# Altium footprint library CONNECTOR_PINHEADER_PINSOCKET.PcbLib: 7 footprints
Each footprint in its own frame and in the unit in brackets; x right, y up, seen from the top. Pads: shape width x height; smd on the part's side, far side on the other; paste and mask are expansions set on the pad; w line width, h text height; cw(c..) or ccw(c..) is an arc to the next point about the centre after c.
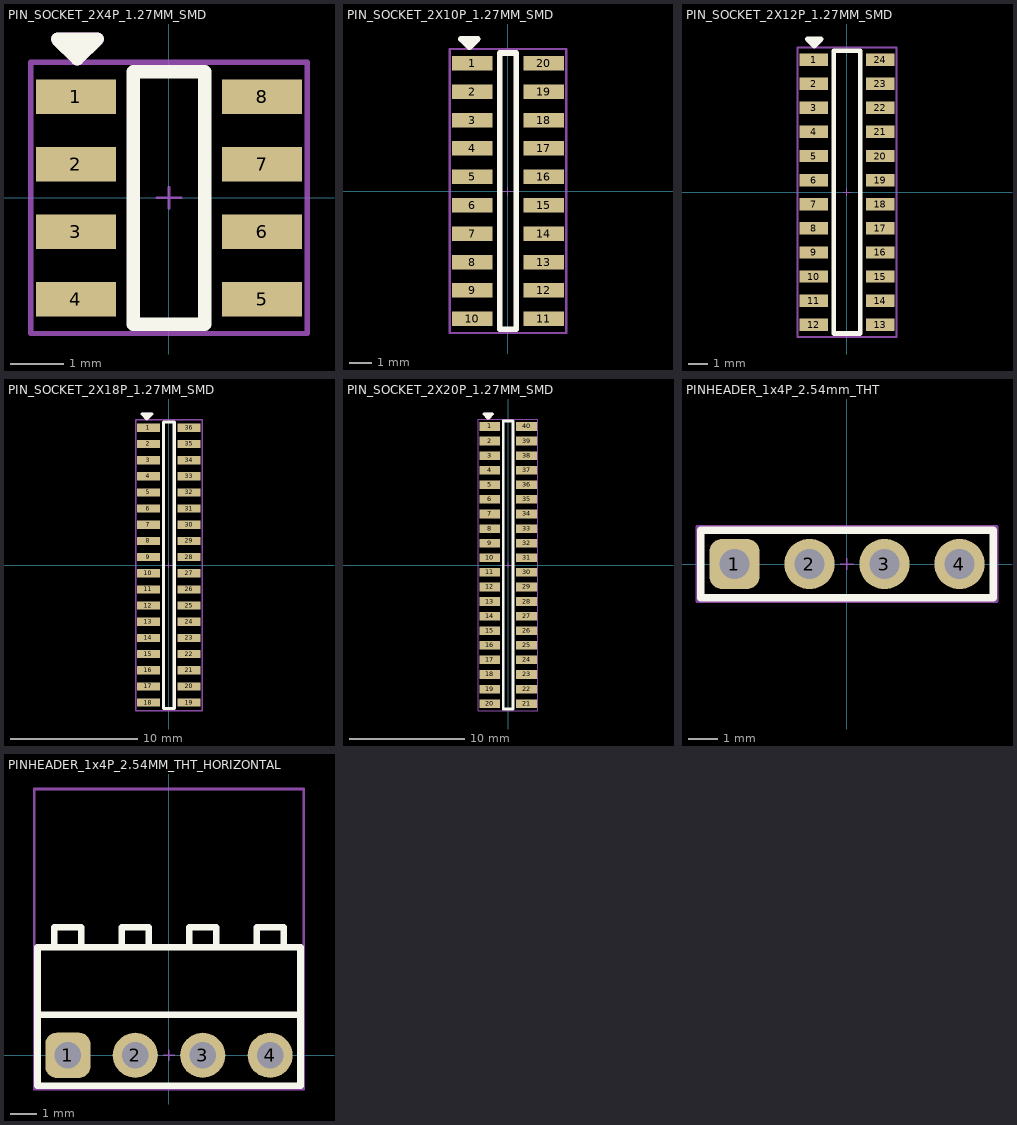
[diagram p0: the footprints below, top view; thin cyan lines are the x and y axes]

## PIN_SOCKET_2X4P_1.27MM_SMD [mm]
pads (8):
  rect 1.5x0.65 smd: 1(-1.75,1.905) 2(-1.75,0.635) 3(-1.75,-0.635) 4(-1.75,-1.905) 5(1.75,-1.905) 6(1.75,-0.635) 7(1.75,0.635) 8(1.75,1.905)
Top Overlay:
  region: -2.1,2.99 -1.35,2.99 -1.725,2.615
  lines w0.25: -2.1,2.99 -1.725,2.615 -1.35,2.99 -2.1,2.99 ; -0.675,-2.375 0.675,-2.375 0.675,2.375 -0.675,2.375 -0.675,-2.375
Mechanical 13:
  region: -2.1,2.99 -1.35,2.99 -1.725,2.615
  lines w0.1: -2.6,-2.55 2.6,-2.55 2.6,2.55 -2.6,2.55 -2.6,-2.55
  lines w0.25: -2.1,2.99 -1.725,2.615 -1.35,2.99 -2.1,2.99
Mechanical 15:
  lines w0.05: -0.225,0 0.225,0 ; 0,-0.2 0,0.2 ; -2.6,-2.55 2.6,-2.55 2.6,2.55 -2.6,2.55 -2.6,-2.55
3D body "PinSocket_2x04_P1.27mm_Vertical_SMD.step": height 4.6, standoff -0.03, extent -2.592,-2.54 2.592,2.54

## PIN_SOCKET_2X10P_1.27MM_SMD [mm]
pads (20):
  rect 1.8x0.65 smd: 1(-1.6,5.715) 2(-1.6,4.445) 3(-1.6,3.175) 4(-1.6,1.905) 5(-1.6,0.635) 6(-1.6,-0.635) 7(-1.6,-1.905) 8(-1.6,-3.175) 9(-1.6,-4.445) 10(-1.6,-5.715) 11(1.6,-5.715) 12(1.6,-4.445) 13(1.6,-3.175) 14(1.6,-1.905) 15(1.6,-0.635) 16(1.6,0.635) 17(1.6,1.905) 18(1.6,3.175) 19(1.6,4.445) 20(1.6,5.715)
Top Overlay:
  region: -2.1,6.8 -1.35,6.8 -1.725,6.425
  lines w0.25: -2.1,6.8 -1.35,6.8 -1.725,6.425 -2.1,6.8 ; -0.375,-6.175 0.375,-6.175 0.375,6.175 -0.375,6.175 -0.375,-6.175
Mechanical 13:
  region: -2.1,6.8 -1.35,6.8 -1.725,6.425
  lines w0.1: -2.6,-6.35 2.6,-6.35 2.6,6.35 -2.6,6.35 -2.6,-6.35
  lines w0.25: -2.1,6.8 -1.35,6.8 -1.725,6.425 -2.1,6.8
Mechanical 15:
  lines w0.05: -0.225,0 0.225,0 ; 0,-0.2 0,0.2 ; -2.6,-6.35 2.6,-6.35 2.6,6.35 -2.6,6.35 -2.6,-6.35
3D body "PinSocket_2x10_P1.27mm_Vertical_SMD.step": height 4.6, standoff -0.03, extent -2.593,-6.35 2.592,6.35

## PIN_SOCKET_2X12P_1.27MM_SMD [mm]
pads (24):
  rect 1.5x0.65 smd: 1(-1.75,6.985) 2(-1.75,5.715) 3(-1.75,4.445) 4(-1.75,3.175) 5(-1.75,1.905) 6(-1.75,0.635) 7(-1.75,-0.635) 8(-1.75,-1.905) 9(-1.75,-3.175) 10(-1.75,-4.445) 11(-1.75,-5.715) 12(-1.75,-6.985) 13(1.75,-6.985) 14(1.75,-5.715) 15(1.75,-4.445) 16(1.75,-3.175) 17(1.75,-1.905) 18(1.75,-0.635) 19(1.75,0.635) 20(1.75,1.905) 21(1.75,3.175) 22(1.75,4.445) 23(1.75,5.715) 24(1.75,6.985)
Top Overlay:
  region: -2.1,8.07 -1.35,8.07 -1.725,7.695
  lines w0.25: -2.1,8.07 -1.35,8.07 -1.725,7.695 -2.1,8.07 ; -0.7,-7.45 -0.7,7.45 0.7,7.45 0.7,-7.45 -0.7,-7.45
Mechanical 13:
  lines w0.1: -2.6,-7.625 2.6,-7.625 2.6,7.625 -2.6,7.625 -2.6,-7.625
Mechanical 15:
  lines w0.05: -0.225,0 0.225,0 ; 0,-0.2 0,0.2 ; -2.6,-7.625 -2.6,7.625 2.6,7.625 2.6,-7.625 -2.6,-7.625
3D body "PinSocket_2x12_P1.27mm_Vertical_SMD.step": height 4.6, standoff -0.03, extent -2.592,-7.62 2.592,7.62

## PIN_SOCKET_2X18P_1.27MM_SMD [mm]
pads (36):
  rect 1.8x0.65 smd: 1(-1.6,10.795) 2(-1.6,9.525) 3(-1.6,8.255) 4(-1.6,6.985) 5(-1.6,5.715) 6(-1.6,4.445) 7(-1.6,3.175) 8(-1.6,1.905) 9(-1.6,0.635) 10(-1.6,-0.635) 11(-1.6,-1.905) 12(-1.6,-3.175) 13(-1.6,-4.445) 14(-1.6,-5.715) 15(-1.6,-6.985) 16(-1.6,-8.255) 17(-1.6,-9.525) 18(-1.6,-10.795) 19(1.6,-10.795) 20(1.6,-9.525) 21(1.6,-8.255) 22(1.6,-6.985) 23(1.6,-5.715) 24(1.6,-4.445) 25(1.6,-3.175) 26(1.6,-1.905) 27(1.6,-0.635) 28(1.6,0.635) 29(1.6,1.905) 30(1.6,3.175) 31(1.6,4.445) 32(1.6,5.715) 33(1.6,6.985) 34(1.6,8.255) 35(1.6,9.525) 36(1.6,10.795)
Top Overlay:
  region: -2.1,11.88 -1.35,11.88 -1.725,11.505
  lines w0.25: -2.1,11.88 -1.35,11.88 -1.725,11.505 -2.1,11.88 ; -0.425,-11.275 0.425,-11.275 0.425,11.255 -0.425,11.255 -0.425,-11.275
Mechanical 13:
  region: -2.1,11.88 -1.35,11.88 -1.725,11.505
  lines w0.1: -2.6,-11.45 2.625,-11.45 2.625,11.425 -2.6,11.425 -2.6,-11.45
  lines w0.25: -2.1,11.88 -1.35,11.88 -1.725,11.505 -2.1,11.88
Mechanical 15:
  lines w0.05: -0.225,0 0.225,0 ; 0,-0.2 0,0.2 ; -2.6,-11.45 2.625,-11.45 2.625,11.425 -2.6,11.425 -2.6,-11.45
3D body "PinSocket_2x18_P1.27mm_Vertical_SMD.step": height 4.6, standoff -0.03, extent -2.592,-11.43 2.592,11.43

## PIN_SOCKET_2X20P_1.27MM_SMD [mm]
pads (40):
  rect 1.8x0.75 smd: 1(-1.6,12.065) 2(-1.6,10.795) 3(-1.6,9.525) 4(-1.6,8.255) 5(-1.6,6.985) 6(-1.6,5.715) 7(-1.6,4.445) 8(-1.6,3.175) 9(-1.6,1.905) 10(-1.6,0.635) 11(-1.6,-0.635) 12(-1.6,-1.905) 13(-1.6,-3.175) 14(-1.6,-4.445) 15(-1.6,-5.715) 16(-1.6,-6.985) 17(-1.6,-8.255) 18(-1.6,-9.525) 19(-1.6,-10.795) 20(-1.6,-12.065) 21(1.6,-12.065) 22(1.6,-10.795) 23(1.6,-9.525) 24(1.6,-8.255) 25(1.6,-6.985) 26(1.6,-5.715) 27(1.6,-4.445) 28(1.6,-3.175) 29(1.6,-1.905) 30(1.6,-0.635) 31(1.6,0.635) 32(1.6,1.905) 33(1.6,3.175) 34(1.6,4.445) 35(1.6,5.715) 36(1.6,6.985) 37(1.6,8.255) 38(1.6,9.525) 39(1.6,10.795) 40(1.6,12.065)
Top Overlay:
  region: -2.1,13.15 -1.35,13.15 -1.725,12.775
  lines w0.25: -2.1,13.15 -1.35,13.15 -1.725,12.775 -2.1,13.15 ; -0.425,-12.525 -0.425,12.525 0.425,12.525 0.425,-12.525 -0.425,-12.525
Mechanical 13:
  region: -2.1,13.15 -1.35,13.15 -1.725,12.775
  lines w0.1: -2.6,-12.7 -2.6,12.7 2.575,12.7 2.575,-12.7 -2.6,-12.7
  lines w0.25: -2.1,13.15 -1.35,13.15 -1.725,12.775 -2.1,13.15
Mechanical 15:
  lines w0.05: -0.225,0 0.225,0 ; 0,-0.2 0,0.2 ; -2.6,-12.7 2.575,-12.7 2.575,12.7 -2.6,12.7 -2.6,-12.7
3D body "PinSocket_2x20_P1.27mm_Vertical_SMD.step": height 4.6, standoff -0.03, extent -2.592,-12.7 2.592,12.7

## PINHEADER_1x4P_2.54mm_THT [mm]
pads (4):
  rrect50% 1.7x1.7 hole 1: 1(-3.81,0)
  round 1.7 hole 1: 2(-1.27,0) 3(1.27,0) 4(3.81,0)
Top Overlay:
  lines w0.25: -4.953,-1.143 -4.953,1.143 4.953,1.143 4.953,-1.143 -4.953,-1.143
Mechanical 13:
  lines w0.1: -5.08,-1.27 5.08,-1.27 5.08,1.27 -5.08,1.27 -5.08,-1.27
Mechanical 15:
  lines w0.05: -0.225,0 0.225,0 ; 0,-0.2 0,0.2 ; -5.08,-1.27 5.08,-1.27 5.08,1.27 -5.08,1.27 -5.08,-1.27
3D body "PinHeader_1x04_P2.54mm_Vertical.step": height 8.54, standoff -3, extent -5.08,-1.27 5.08,1.27

## PINHEADER_1x4P_2.54MM_THT_HORIZONTAL [mm]
pads (4):
  rrect50% 1.7x1.7 hole 1: 1(-3.81,0)
  round 1.7 hole 1: 2(-1.27,0) 3(1.27,0) 4(3.81,0)
Top Overlay:
  lines w0.25: -4.953,1.524 4.953,1.524 ; -4.318,4.064 -4.318,4.826 -3.302,4.826 -3.302,4.064 ; -1.778,4.064 -1.778,4.826 -0.762,4.826 -0.762,4.064 ; 0.762,4.064 0.762,4.826 1.778,4.826 1.778,4.064 ; 3.302,4.064 3.302,4.826 4.318,4.826 4.318,4.064 ; -4.953,-1.143 4.953,-1.143 4.953,4.064 -4.953,4.064 -4.953,-1.143
Mechanical 13:
  lines w0.1: -5.08,-1.27 5.08,-1.27 5.08,10.033 -5.08,10.033 -5.08,-1.27
Mechanical 15:
  lines w0.05: -0.225,0 0.225,0 ; 0,-0.2 0,0.2 ; -5.08,-1.27 5.08,-1.27 5.08,10.033 -5.08,10.033 -5.08,-1.27
3D body "PinHeader_1x04_P2.54mm_Horizontal.step": height 2.64, standoff -2.9, extent -5.08,-0.32 5.08,10.04